# EAGLE library part MOD_WIFI_BT (library !GPLIB_ACTIVE)
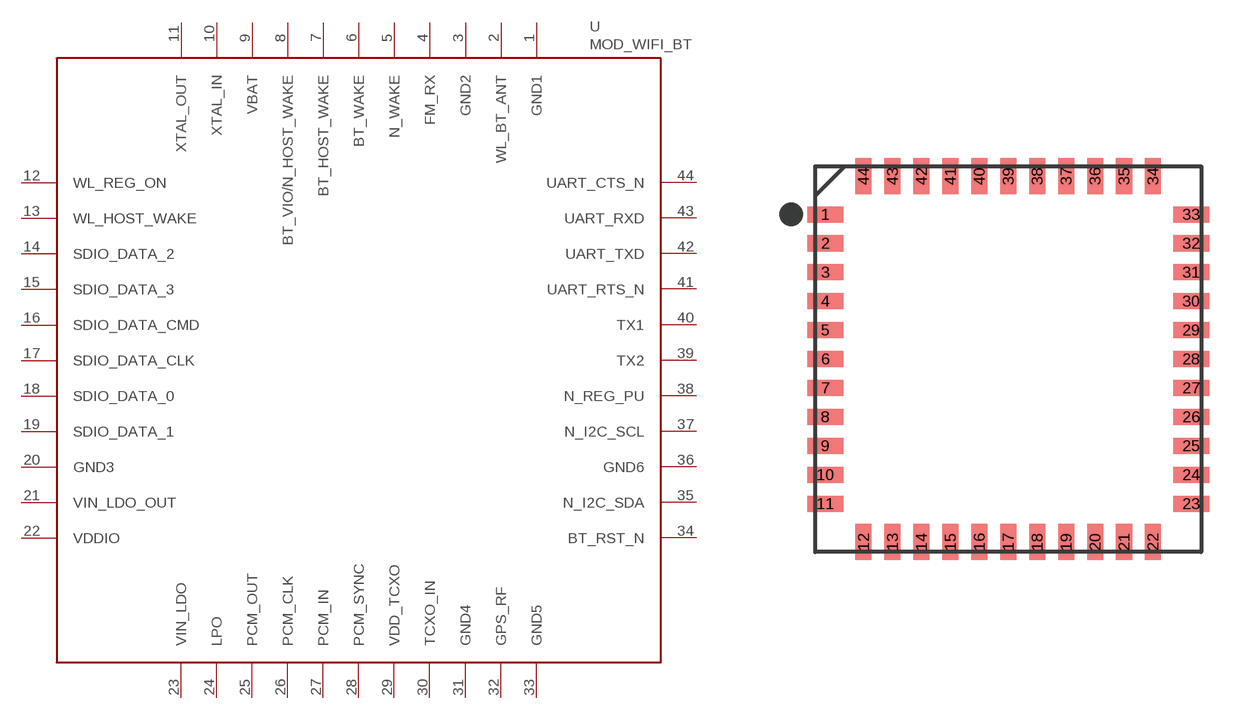
[diagram p130: symbol with the pads of MOD_BL_M8800DS2-40; footprint MOD_BL_M8800DS2-40]

Designator prefix U

## MOD_WIFI_BT_BL-M8800DS2-40  [MOD_BL_M8800DS2-40]
1  GND1
2  WL_BT_ANT
3  GND2
4  FM_RX
5  N_WAKE
6  BT_WAKE
7  BT_HOST_WAKE
8  BT_VIO/N_HOST_WAKE
9  VBAT
10  XTAL_IN
11  XTAL_OUT
12  WL_REG_ON
13  WL_HOST_WAKE
14  SDIO_DATA_2
15  SDIO_DATA_3
16  SDIO_DATA_CMD
17  SDIO_DATA_CLK
18  SDIO_DATA_0
19  SDIO_DATA_1
20  GND3
21  VIN_LDO_OUT
22  VDDIO
23  VIN_LDO
24  LPO
25  PCM_OUT
26  PCM_CLK
27  PCM_IN
28  PCM_SYNC
29  VDD_TCXO
30  TCXO_IN
31  GND4
32  GPS_RF
33  GND5
34  BT_RST_N
35  N_I2C_SDA
36  GND6
37  N_I2C_SCL
38  N_REG_PU
39  TX2
40  TX1
41  UART_RTS_N
42  UART_TXD
43  UART_RXD
44  UART_CTS_N

## Footprint MOD_BL_M8800DS2-40 (pad centres in mm)
smd 1.125 x 0.5: 1 -5.688,4.5; 2 -5.688,3.6; 3 -5.688,2.7; 4 -5.688,1.8; 5 -5.688,0.9; 6 -5.688,0; 7 -5.688,-0.9; 8 -5.688,-1.8; 9 -5.688,-2.7; 10 -5.688,-3.6; 11 -5.688,-4.5; 23 5.688,-4.5; 24 5.688,-3.6; 25 5.688,-2.7; 26 5.688,-1.8; 27 5.688,-0.9; 28 5.688,0; 29 5.688,0.9; 30 5.688,1.8; 31 5.688,2.7; 32 5.688,3.6; 33 5.688,4.5
smd 0.5 x 1.125: 12 -4.5,-5.688; 13 -3.6,-5.688; 14 -2.7,-5.688; 15 -1.8,-5.688; 16 -0.9,-5.688; 17 0,-5.688; 18 0.9,-5.688; 19 1.8,-5.688; 20 2.7,-5.688; 21 3.6,-5.688; 22 4.5,-5.688; 34 4.5,5.688; 35 3.6,5.688; 36 2.7,5.688; 37 1.8,5.688; 38 0.9,5.688; 39 0,5.688; 40 -0.9,5.688; 41 -1.8,5.688; 42 -2.7,5.688; 43 -3.6,5.688; 44 -4.5,5.688